# Altium footprint library TransistorThyristor_SMD.PcbLib: 50 footprints (part 4 of 4)
Each footprint in its own frame and in the unit in brackets; x right, y up, seen from the top. Pads: shape width x height; smd on the part's side, far side on the other; paste and mask are expansions set on the pad; w line width, h text height; cw(c..) or ccw(c..) is an arc to the next point about the centre after c.
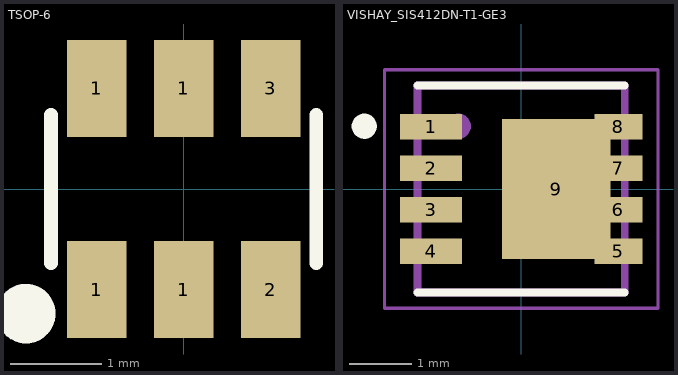
[diagram p3: the footprints below, top view; thin cyan lines are the x and y axes]

## TSOP-6 [mm]
pads (6):
  rect 0.65x1.06 smd: 1(-0.95,-1.1) 1(-0.95,1.1) 1(0,-1.1) 1(0,1.1) 2(0.95,-1.1) 3(0.95,1.1)
Top Overlay:
  circle w0.5: c-1.725,-1.362 r0.075
  lines w0.15: -1.45,-0.813 -1.45,0.813 ; 1.45,-0.813 1.45,0.813
3D body "6-TSOP.STEP": height 0.98, standoff -0.04, extent -1.496,-1.402 1.568,1.469

## VISHAY_SIS412DN-T1-GE3 [mm] "PowerPAK® 1212-8"
pads (9):
  rect 0.99x0.405 smd: 1(-1.435,0.992) 2(-1.435,0.33) 3(-1.435,-0.33) 4(-1.435,-0.992)
  rect 0.76x0.405 smd: 5(1.55,-0.992) 6(1.55,-0.33) 7(1.55,0.33) 8(1.55,0.992)
  rect 1.725x2.235 smd: 9(0.557,0)
Top Overlay:
  circle w0.2: c-2.5,1 r0.1
  lines w0.127: -1.65,-1.65 1.65,-1.65 ; -1.65,1.65 1.65,1.65
Mechanical 13:
  circle w0.2: c-1,1 r0.1
  lines w0.127: -1.65,-1.65 1.65,-1.65 1.65,1.65 -1.65,1.65 -1.65,-1.65
Mechanical 15:
  lines w0.05: -2.18,-1.9 2.18,-1.9 2.18,1.9 -2.18,1.9 -2.18,-1.9
3D body "SIS468DN-T1-GE3--3DModel-STEP-56544.STEP": height 1.12, standoff 0, extent -1.651,-1.651 1.651,1.651